# EAGLE library part CD74HCT11M96 (library CD74HCT11M96)
High Speed CMOS Logic Triple 3-Input AND Gates Source: Datasheet <http://www.ti.com/lit/gpn/cd74hct11>
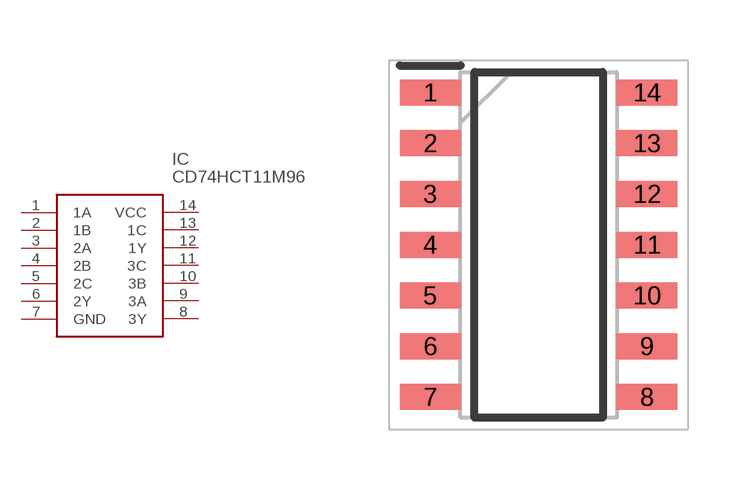
[diagram p0: symbol with the pads of SOIC127P600X175-14N; footprint SOIC127P600X175-14N]

Designator prefix IC

## CD74HCT11M96 (Description: High Speed CMOS Logic Triple 3-Input AND Gates; Height: 1.75mm; Manufacturer_Name: Texas Instruments; Manufacturer_Part_Number: CD74HCT11M96; Mouser_Part_Number: 595-CD74HCT11M96; Mouser_Price-Stock: https://www.mouser.com/Search/Refine.aspx?Keyword=595-CD74HCT11M96)  [SOIC127P600X175-14N]
1  1A
2  1B
3  2A
4  2B
5  2C
6  2Y
7  GND
8  3Y
9  3A
10  3B
11  3C
12  1Y
13  1C
14  VCC

## Footprint SOIC127P600X175-14N (pad centres in mm)
D
smd 1.525 x 0.65: 1 -2.712,3.81; 2 -2.712,2.54; 3 -2.712,1.27; 4 -2.712,0; 5 -2.712,-1.27; 6 -2.712,-2.54; 7 -2.712,-3.81; 8 2.712,-3.81; 9 2.712,-2.54; 10 2.712,-1.27; 11 2.712,0; 12 2.712,1.27; 13 2.712,2.54; 14 2.712,3.81